# EAGLE library part CRA12?81* (library Resistors - Networks,Arrays)
CRA12 Series Thick Film Resistor Array Pin 8 is common http://www.vishay.com/docs/31003/cra12es.pdf
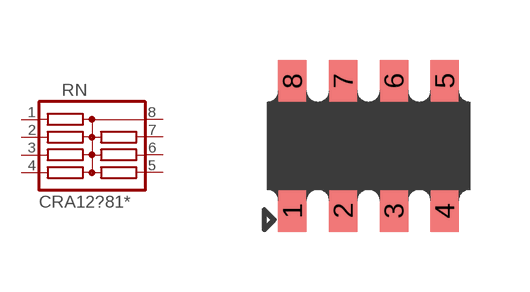
[diagram p4: symbol with the pads of E; footprint E]

Designator prefix RN

## CRA12E81  [E]
1  1  pas
2  2  pas
3  3  pas
4  4  pas
5  5  pas
6  6  pas
7  7  pas
8  8  pas

## Footprint E (pad centres in mm)
smd 0.71 x 1.05: 1 -1.905,-1.625; 2 -0.635,-1.625; 3 0.635,-1.625; 4 1.905,-1.625; 5 1.905,1.625; 6 0.635,1.625; 7 -0.635,1.625; 8 -1.905,1.625